# Altium schematic symbol library Memory.SchLib: 23 symbols
Pins are listed as number, name and electrical type; pins without a type are passive.

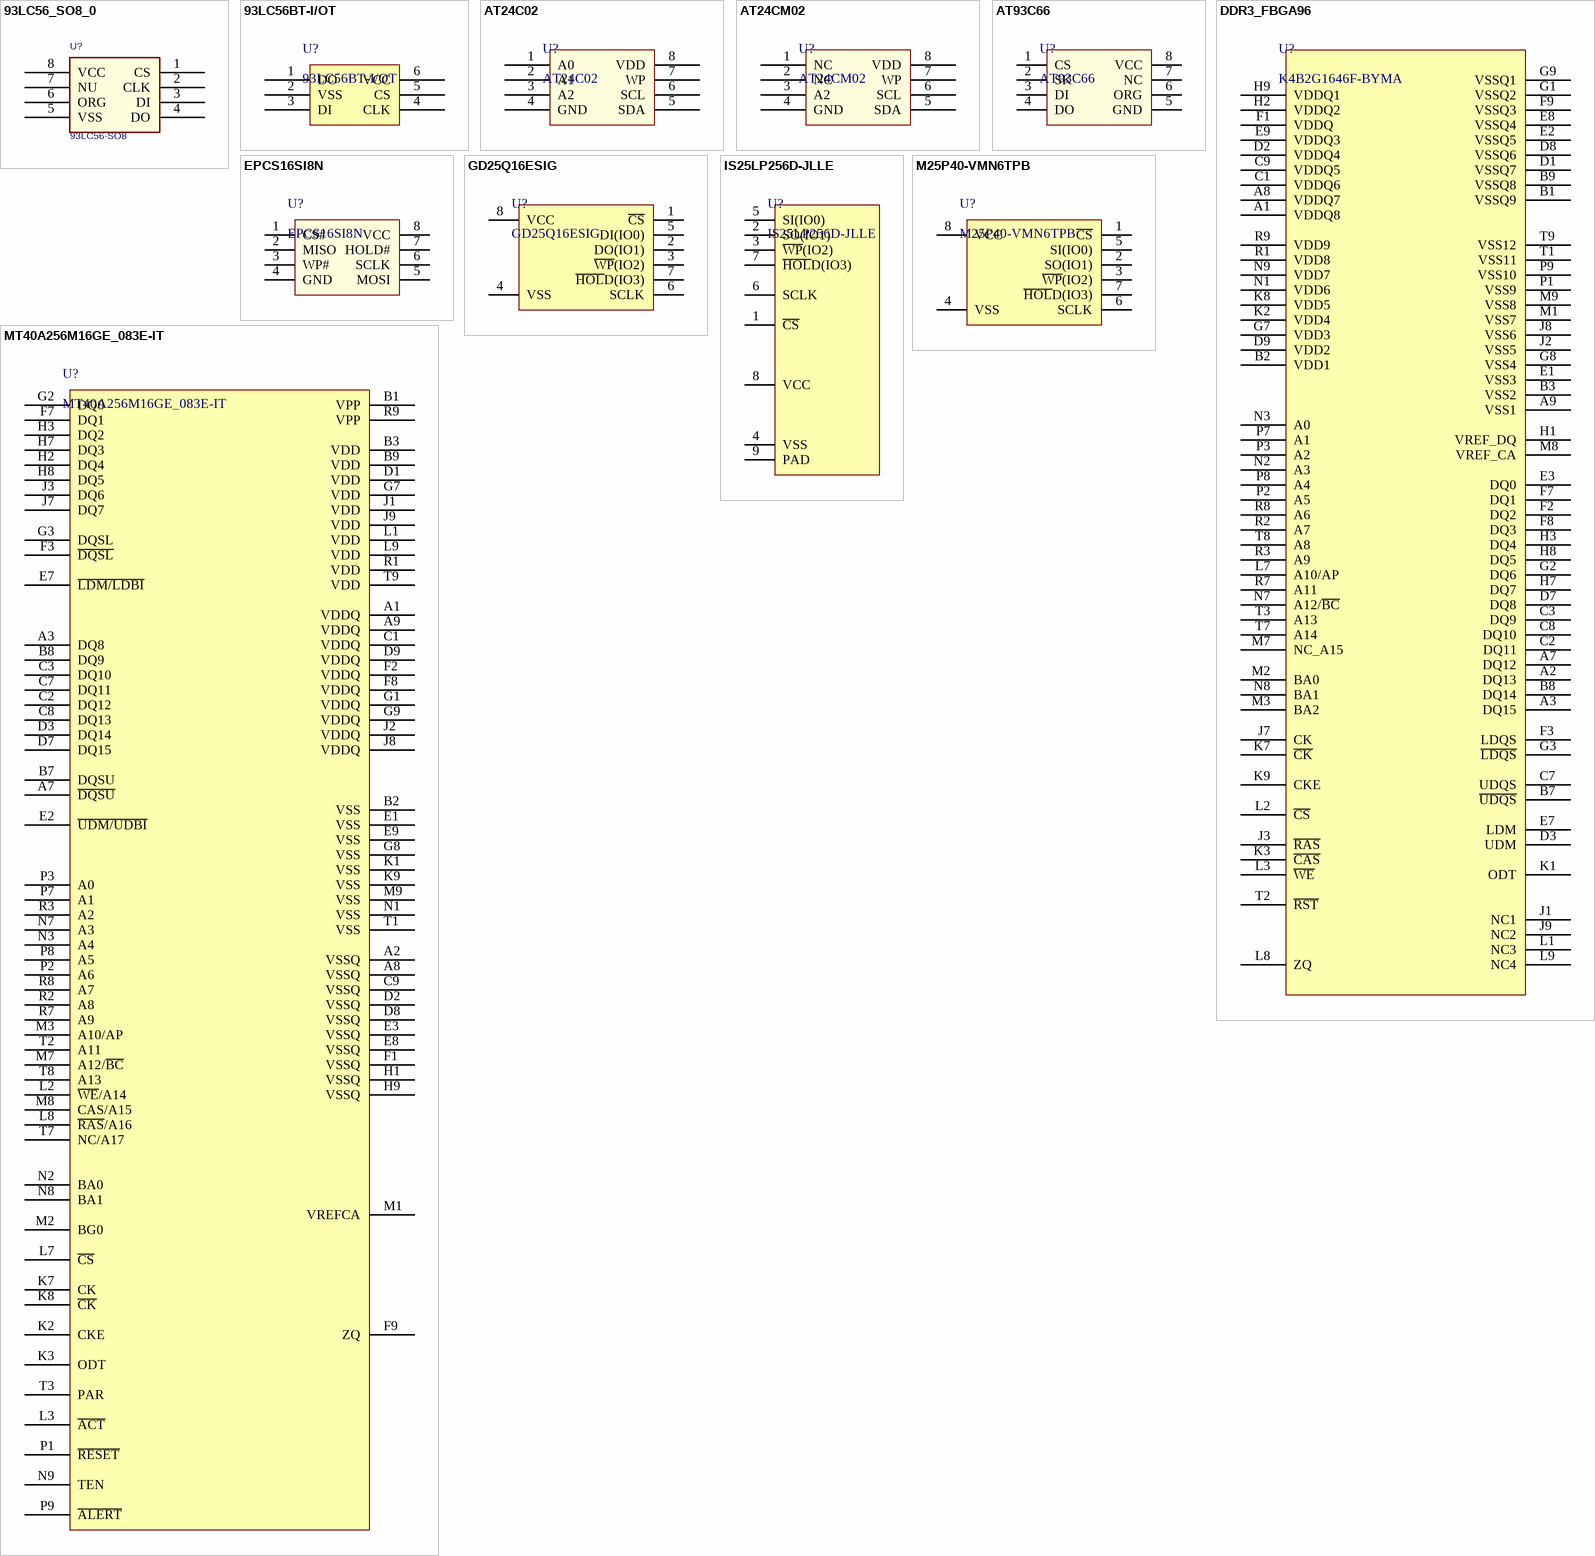
[diagram p0: symbols 93LC56_SO8_0 to MT40A256M16GE_083E-IT]

## 93LC56_SO8_0
designator U?, comment 93LC56-SO8
IC 93LC56 EEPROM
footprint so8_50_244
footprint SO-8_3.9x4.9mm_P1.27mm (SOIC, 8-Leads, Body 4.9x3.90mm, Pitch 1.27mm, IPC Medium Density)
pins: 1 CS, 2 CLK, 3 DI, 4 DO, 5 VSS (power), 6 ORG, 7 NU, 8 VCC (power)

## 93LC56BT-I/OT
designator U?
2K EEPROM
footprint SOT-23-6 (SOT23, 6-Leads, Body 2.90x2.80mm, Pitch 0.95mm, IPC Medium Density)
pins: 1 DO, 2 VSS, 3 DI, 4 CLK, 5 CS, 6 VCC

## AT24C02
designator U?
footprint SO-8_3.9x4.9mm_P1.27mm (SOIC, 8-Leads, Body 4.9x3.90mm, Pitch 1.27mm, IPC Medium Density)
pins: 1 A0, 2 A1, 3 A2, 4 GND, 5 SDA, 6 SCL, 7 WP, 8 VDD

## AT24CM02
designator U?
AT24CM02 2Mbit EEProm
footprint SO-8_3.9x4.9mm_P1.27mm (SOIC, 8-Leads, Body 4.9x3.90mm, Pitch 1.27mm, IPC Medium Density)
pins: 1 NC, 2 NC, 3 A2, 4 GND, 5 SDA, 6 SCL, 7 WP, 8 VDD

## AT93C66
designator U?
footprint SO-8_3.9x4.9mm_P1.27mm (SOIC, 8-Leads, Body 4.9x3.90mm, Pitch 1.27mm, IPC Medium Density)
pins: 1 CS, 2 SK, 3 DI, 4 DO, 5 GND, 6 ORG, 7 NC, 8 VCC

## DDR3_FBGA96
designator U?, comment K4B2G1646F-BYMA
footprint FBGA-96-(7.5-9.0) (BGA, 96-Leads, Body 9.00x14.00mmx1.10mm, Pitch 0.80mm)
pins: A1 VDDQ8, A2 DQ13, A3 DQ15, A7 DQ12, A8 VDDQ7, A9 VSS1, B1 VSSQ9, B2 VDD1, B3 VSS2, B7 ~{UDQS}, B8 DQ14, B9 VSSQ8, C1 VDDQ6, C2 DQ11, C3 DQ9, C7 UDQS, C8 DQ10, C9 VDDQ5, D1 VSSQ7, D2 VDDQ4, D3 UDM, D7 DQ8, D8 VSSQ6, D9 VDD2, E1 VSS3, E2 VSSQ5, E3 DQ0, E7 LDM, E8 VSSQ4, E9 VDDQ3, F1 VDDQ, F2 DQ2, F3 LDQS, F7 DQ1, F8 DQ3, F9 VSSQ3, G1 VSSQ2, G2 DQ6, G3 ~{LDQS}, G7 VDD3, G8 VSS4, G9 VSSQ1, H1 VREF_DQ, H2 VDDQ2, H3 DQ4, H7 DQ7, H8 DQ5, H9 VDDQ1, J1 NC1, J2 VSS5, J3 ~{RAS}, J7 CK, J8 VSS6, J9 NC2, K1 ODT, K2 VDD4, K3 ~{CAS}, K7 ~{CK}, K8 VDD5, K9 CKE, L1 NC3, L2 ~{CS}, L3 ~{WE}, L7 A10/AP, L8 ZQ, L9 NC4, M1 VSS7, M2 BA0, M3 BA2, M7 NC_A15, M8 VREF_CA, M9 VSS8, N1 VDD6, N2 A3, N3 A0, N7 A12/~{BC}, N8 BA1, N9 VDD7, P1 VSS9, P2 A5, P3 A2, P7 A1, P8 A4, P9 VSS10, R1 VDD8, R2 A7, R3 A9, R7 A11, R8 A6, R9 VDD9, T1 VSS11, T2 ~{RST}, T3 A13, T7 A14, T8 A8, T9 VSS12

## EPCS16SI8N
designator U?
FPGA配置芯片 EPCS16SI8N
footprint SO-8_3.9x4.9mm_P1.27mm (SOIC, 8-Leads, Body 4.9x3.90mm, Pitch 1.27mm, IPC Medium Density)
pins: 1 CS#, 2 MISO, 3 WP#, 4 GND, 5 MOSI, 6 SCLK, 7 HOLD#, 8 VCC

## GD25Q16ESIG
designator U?
footprint SO-8_208mil (SOIC, 8-Leads, Body 5.28x5.28mm, Pitch 1.27mm, IPC Medium Density)
pins: 1 ~{CS}, 2 DO(IO1), 3 ~{WP}(IO2), 4 VSS, 5 DI(IO0), 6 SCLK, 7 ~{HOL}D(IO3), 8 VCC

## IS25LP256D-JLLE
designator U?
256Mb SERIAL FLASH MEMORY WITH 166/104MHZ MULTI I/O SPI & QUAD I/O QPI DTR INTERFACE
footprint WSON-8_8x6mm_P1.27mm_EP4.3x3.4mm (SON, 8-Leads, Body 6.00x8.00mm, Pitch 1.27mm, Thermal Pad 4.30x3.40mm, IPC Medium Density)
pins: 1 ~{CS}, 2 SO(IO1), 3 ~{WP}(IO2), 4 VSS, 5 SI(IO0), 6 SCLK, 7 ~{HOL}D(IO3), 8 VCC, 9 PAD

## M25P40-VMN6TPB
designator U?
SPI-NOR FLASH
footprint SO-8_208mil (SOIC, 8-Leads, Body 5.28x5.28mm, Pitch 1.27mm, IPC Medium Density)
pins: 1 ~{CS}, 2 SO(IO1), 3 ~{WP}(IO2), 4 VSS, 5 SI(IO0), 6 SCLK, 7 ~{HOL}D(IO3), 8 VCC

## MT40A256M16GE_083E-IT
designator U?
4Gb 256Mb x16 -40C to +125C DDR4-2400
footprint FBGA-96_L14.0-W9.0-R16-C6-P0.80-TL
pins: A1 VDDQ, A2 VSSQ, A3 DQ8, A7 ~{DQSU}, A8 VSSQ, A9 VDDQ, B1 VPP, B2 VSS, B3 VDD, B7 DQSU, B8 DQ9, B9 VDD, C1 VDDQ, C2 DQ12, C3 DQ10, C7 DQ11, C8 DQ13, C9 VSSQ, D1 VDD, D2 VSSQ, D3 DQ14, D7 DQ15, D8 VSSQ, D9 VDDQ, E1 VSS, E2 ~{UDM/UDBI}, E3 VSSQ, E7 ~{LDM/LDBI}, E8 VSSQ, E9 VSS, F1 VSSQ, F2 VDDQ, F3 ~{DQSL}, F7 DQ1, F8 VDDQ, F9 ZQ, G1 VDDQ, G2 DQ0, G3 DQSL, G7 VDD, G8 VSS, G9 VDDQ, H1 VSSQ, H2 DQ4, H3 DQ2, H7 DQ3, H8 DQ5, H9 VSSQ, J1 VDD, J2 VDDQ, J3 DQ6, J7 DQ7, J8 VDDQ, J9 VDD, K1 VSS, K2 CKE, K3 ODT, K7 CK, K8 ~{CK}, K9 VSS, L1 VDD, L2 ~{WE}/A14, L3 ~{ACT}, L7 ~{CS}, L8 ~{RAS}/A16, L9 VDD, M1 VREFCA, M2 BG0, M3 A10/AP, M7 A12/~{BC}, M8 CAS/A15, M9 VSS, N1 VSS, N2 BA0, N3 A4, N7 A3, N8 BA1, N9 TEN, P1 ~{RESET}, P2 A6, P3 A0, P7 A1, P8 A5, P9 ~{ALERT}, R1 VDD, R2 A8, R3 A2, R7 A9, R8 A7, R9 VPP, T1 VSS, T2 A11, T3 PAR, T7 NC/A17, T8 A13, T9 VDD

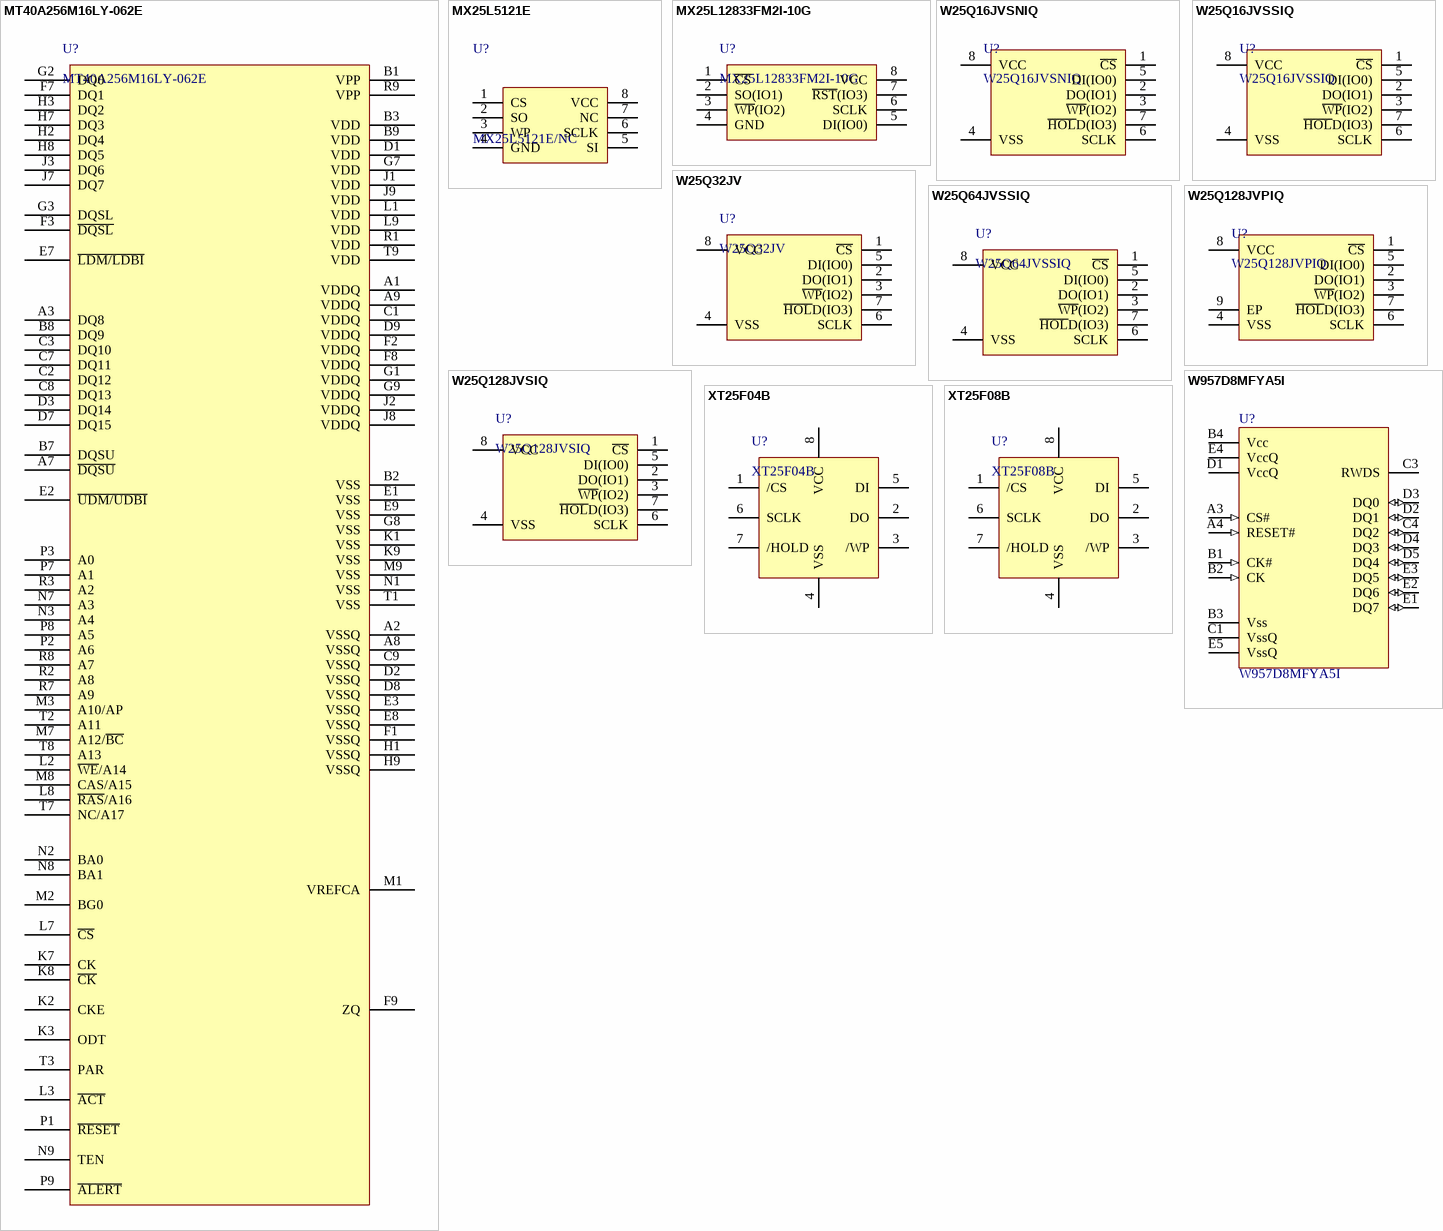
[diagram p1: symbols MT40A256M16LY-062E to XT25F08B]

## MT40A256M16LY-062E
designator U?
4Gb 256Mb x16 0C to +95C DDR4-3200
footprint FBGA-96(9.0x14.0) (BGA, 96-Leads, Body 9.00x14.00mmx1.10mm, Pitch 0.80mm)
pins: A1 VDDQ, A2 VSSQ, A3 DQ8, A7 ~{DQSU}, A8 VSSQ, A9 VDDQ, B1 VPP, B2 VSS, B3 VDD, B7 DQSU, B8 DQ9, B9 VDD, C1 VDDQ, C2 DQ12, C3 DQ10, C7 DQ11, C8 DQ13, C9 VSSQ, D1 VDD, D2 VSSQ, D3 DQ14, D7 DQ15, D8 VSSQ, D9 VDDQ, E1 VSS, E2 ~{UDM/UDBI}, E3 VSSQ, E7 ~{LDM/LDBI}, E8 VSSQ, E9 VSS, F1 VSSQ, F2 VDDQ, F3 ~{DQSL}, F7 DQ1, F8 VDDQ, F9 ZQ, G1 VDDQ, G2 DQ0, G3 DQSL, G7 VDD, G8 VSS, G9 VDDQ, H1 VSSQ, H2 DQ4, H3 DQ2, H7 DQ3, H8 DQ5, H9 VSSQ, J1 VDD, J2 VDDQ, J3 DQ6, J7 DQ7, J8 VDDQ, J9 VDD, K1 VSS, K2 CKE, K3 ODT, K7 CK, K8 ~{CK}, K9 VSS, L1 VDD, L2 ~{WE}/A14, L3 ~{ACT}, L7 ~{CS}, L8 ~{RAS}/A16, L9 VDD, M1 VREFCA, M2 BG0, M3 A10/AP, M7 A12/~{BC}, M8 CAS/A15, M9 VSS, N1 VSS, N2 BA0, N3 A4, N7 A3, N8 BA1, N9 TEN, P1 ~{RESET}, P2 A6, P3 A0, P7 A1, P8 A5, P9 ~{ALERT}, R1 VDD, R2 A8, R3 A2, R7 A9, R8 A7, R9 VPP, T1 VSS, T2 A11, T3 PAR, T7 NC/A17, T8 A13, T9 VDD

## MX25L5121E
designator U?, comment MX25L5121E/NC
MX25L5121E
footprint SOIC-8_150mil
pins: 1 CS, 2 SO, 3 WP, 4 GND, 5 SI, 6 SCLK, 7 NC, 8 VCC

## MX25L12833FM2I-10G
designator U?
SPI NOR FLASH
footprint SO-8_208mil (SOIC, 8-Leads, Body 5.28x5.28mm, Pitch 1.27mm, IPC Medium Density)
pins: 1 ~{CS}, 2 SO(IO1), 3 ~{WP}(IO2), 4 GND, 5 DI(IO0), 6 SCLK, 7 ~{RST}(IO3), 8 VCC

## W25Q16JVSNIQ
designator U?
footprint SO-8_3.9x4.9mm_P1.27mm (SOIC, 8-Leads, Body 4.9x3.90mm, Pitch 1.27mm, IPC Medium Density)
pins: 1 ~{CS}, 2 DO(IO1), 3 ~{WP}(IO2), 4 VSS, 5 DI(IO0), 6 SCLK, 7 ~{HOL}D(IO3), 8 VCC

## W25Q16JVSSIQ
designator U?
footprint SO-8_208mil (SOIC, 8-Leads, Body 5.28x5.28mm, Pitch 1.27mm, IPC Medium Density)
pins: 1 ~{CS}, 2 DO(IO1), 3 ~{WP}(IO2), 4 VSS, 5 DI(IO0), 6 SCLK, 7 ~{HOL}D(IO3), 8 VCC

## W25Q32JV
designator U?
3V 32M-BIT SERIAL FLASH MEMORY WITH DUAL, QUAD SPI
footprint SO-8_208mil (SOIC, 8-Leads, Body 5.28x5.28mm, Pitch 1.27mm, IPC Medium Density)
pins: 1 ~{CS}, 2 DO(IO1), 3 ~{WP}(IO2), 4 VSS, 5 DI(IO0), 6 SCLK, 7 ~{HOL}D(IO3), 8 VCC

## W25Q64JVSSIQ
designator U?
3V 64M-BIT SERIAL FLASH MEMORY WITH DUAL, QUAD SPI
footprint SO-8_208mil (SOIC, 8-Leads, Body 5.28x5.28mm, Pitch 1.27mm, IPC Medium Density)
pins: 1 ~{CS}, 2 DO(IO1), 3 ~{WP}(IO2), 4 VSS, 5 DI(IO0), 6 SCLK, 7 ~{HOL}D(IO3), 8 VCC

## W25Q128JVPIQ
designator U?
3V 128M-BIT SERIAL FLASH MEMORY WITH DUAL/QUAD SPI
footprint WSON-8_6x5mm_P1.27mm_EP4.3x3.4mm - duplicate (SON, 8-Leads, Body 5.00x6.00mm, Pitch 1.27mm, Thermal Pad 4.30x3.40mm, IPC Medium Density)
pins: 1 ~{CS}, 2 DO(IO1), 3 ~{WP}(IO2), 4 VSS, 5 DI(IO0), 6 SCLK, 7 ~{HOL}D(IO3), 8 VCC, 9 EP

## W25Q128JVSIQ
designator U?
3V 128M-BIT SERIAL FLASH MEMORY WITH DUAL, QUAD SPI
footprint SO-8_208mil (SOIC, 8-Leads, Body 5.28x5.28mm, Pitch 1.27mm, IPC Medium Density)
pins: 1 ~{CS}, 2 DO(IO1), 3 ~{WP}(IO2), 4 VSS, 5 DI(IO0), 6 SCLK, 7 ~{HOL}D(IO3), 8 VCC

## W957D8MFYA5I
designator U?
HyperRAM 16Mx8
footprint TFBGA24 (W957D8MFYA5I)
pins: A3 CS# (in), A4 RESET# (in), B1 CK# (in), B2 CK (in), B3 Vss (power), B4 Vcc (power), C1 VssQ (power), C3 RWDS (power), C4 DQ2 (io), D1 VccQ (power), D2 DQ1 (io), D3 DQ0 (io), D4 DQ3 (io), D5 DQ4 (io), E1 DQ7 (io), E2 DQ6 (io), E3 DQ5 (io), E4 VccQ (power), E5 VssQ (power)

## XT25F04B
designator U?
4M bits 3V Single I/O Serial Flash Memory with 4KB Uniform Sector
footprint SO-8_3.9x4.9mm_P1.27mm (SOIC, 8-Leads, Body 4.9x3.90mm, Pitch 1.27mm, IPC Medium Density)
pins: 1 /CS, 2 DO, 3 /WP, 4 VSS, 5 DI, 6 SCLK, 7 /HOLD, 8 VCC

## XT25F08B
designator U?
8M bit Quad IO Serial NOR Flash 3.3V Multi I/O with 4KB, 32KB & 64KB Sector/Block Erase
footprint DFN-8-1EP_3x2mm_P0.5mm_EP0.2x1.6mm (SON, 8-Leads, Body 2.00x3.00mm, Pitch 0.50mm, Thermal Pad 1.60x0.20mm, IPC Medium Density)
pins: 1 /CS, 2 DO, 3 /WP, 4 VSS, 5 DI, 6 SCLK, 7 /HOLD, 8 VCC